# Altium schematic symbol library Transistor.SchLib: 11 symbols
Pins are listed as number, name and electrical type; pins without a type are passive.

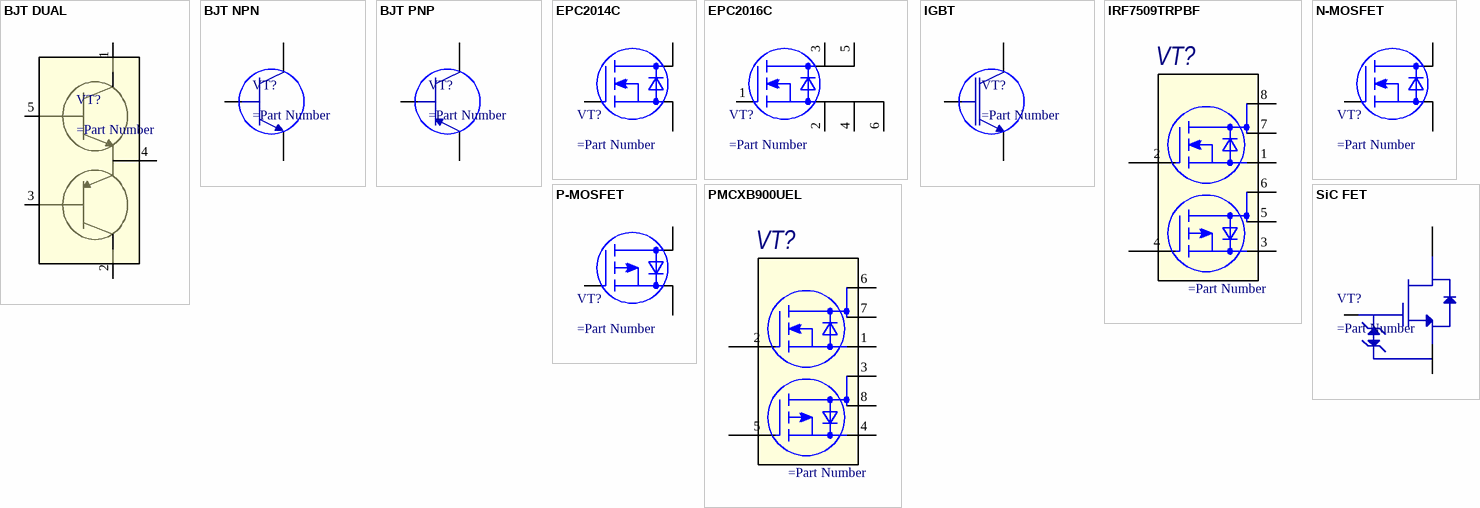
[diagram p0: symbols BJT DUAL to SiC FET]

## BJT DUAL
designator VT?
pins: 1 C, 2 E, 3 B, 4 E, 5 B

## BJT NPN
designator VT?
pins: 1 B, 2 C, 3 E

## BJT PNP
designator VT?
pins: 1 B, 2 C, 3 E

## EPC2014C
designator VT?
eGaN Enhancement Mode Power Transistor
pins: 1 G, 2 SUBSTRATE, 3 D, 4 S, 5 D

## EPC2016C
designator VT?
eGaN Enhancement Mode Power Transistor
pins: 1 G, 2 SUBSTRATE, 3 D, 4 S, 5 D, 6 S

## IGBT
designator VT?
pins: 1 G, 2 С, 3 E

## IRF7509TRPBF
designator VT?
Комплементарная сборка МОП
pins: 1 S1, 2 G1, 3 S2, 4 G2, 5 D2, 6 D2, 7 D1, 8 D1

## N-MOSFET
designator VT?
N-MOSFET
pins: 1 G, 2 D, 3 S

## P-MOSFET
designator VT?
N-MOSFET
pins: 1 G, 2 D, 3 S

## PMCXB900UEL
designator VT?
pins: 1 S1, 2 G1, 3 D2, 4 S2, 5 G2, 6 D1, 7 D1, 8 D2

## SiC FET
designator VT?
SiC FET
pins: 1 G, 2 D, 3 S